# EAGLE library part E0 (library Particle)
Particle E0
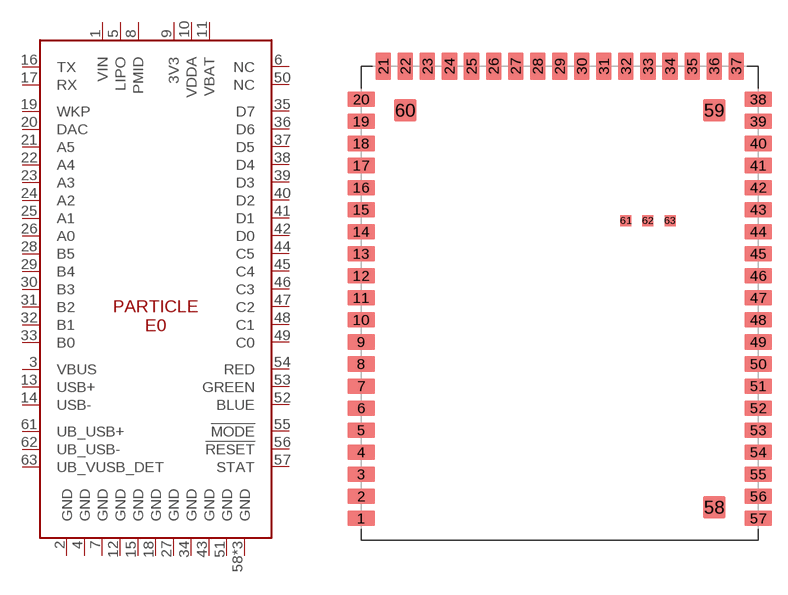
[diagram p33: symbol with the pads of E0; footprint E0]

Designator prefix U

## E0_V005  [E0]
1  VIN
2  GND
3  VBUS
4  GND
5  LIPO
6  NC
7  GND
8  PMID
9  3V3
10  VDDA
11  VBAT
12  GND
13  USB+
14  USB-
15  GND
16  TX
17  RX
18  GND
19  WKP
20  DAC
21  A5
22  A4
23  A3
24  A2
25  A1
26  A0
27  GND
28  B5
29  B4
30  B3
31  B2
32  B1
33  B0
34  GND
35  D7
36  D6
37  D5
38  D4
39  D3
40  D2
41  D1
42  D0
43  GND
44  C5
45  C4
46  C3
47  C2
48  C1
49  C0
50  NC
51  GND
52  BLUE
53  GREEN
54  RED
55  !MODE
56  !RESET
57  STAT
58  GND
59  GND
60  GND
61  UB_USB+
62  UB_USB-
63  UB_VUSB_DET

## Footprint E0 (pad centres in mm)
smd 2.5 x 1.4: 1 -0.008,2; 2 -0.008,4; 3 -0.008,6; 4 -0.008,8; 5 -0.008,10; 6 -0.008,12; 7 -0.008,14; 8 -0.008,16; 9 -0.008,18; 10 -0.008,20; 11 -0.008,22; 12 -0.008,24; 13 -0.008,26; 14 -0.008,28; 15 -0.008,30; 16 -0.008,32; 17 -0.008,34; 18 -0.008,36; 19 -0.008,38; 20 -0.008,40; 38 36.008,40; 39 36.008,38; 40 36.008,36; 41 36.008,34; 42 36.008,32; 43 36.008,30; 44 36.008,28; 45 36.008,26; 46 36.008,24; 47 36.008,22; 48 36.008,20; 49 36.008,18; 50 36.008,16; 51 36.008,14; 52 36.008,12; 53 36.008,10; 54 36.008,8; 55 36.008,6; 56 36.008,4; 57 36.008,2
smd 1.4 x 2.5: 21 2,43.008; 22 4,43.008; 23 6,43.008; 24 8,43.008; 25 10,43.008; 26 12,43.008; 27 14,43.008; 28 16,43.008; 29 18,43.008; 30 20,43.008; 31 22,43.008; 32 24,43.008; 33 26,43.008; 34 28,43.008; 35 30,43.008; 36 32,43.008; 37 34,43.008
smd 2 x 2: 58 32,3; 59 32,39; 60 4,39
smd 1 x 1: 61 24,29; 62 26,29; 63 28,29